# Altium schematic symbol library WE-HCMD.SchLib: 10 symbols
Pins are listed as number, name and electrical type; pins without a type are passive.

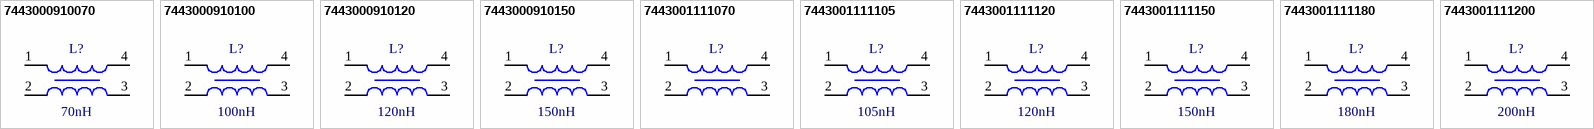
[diagram p0: symbols 7443000910070 to 7443001111200]

## 7443000910070
designator L?, comment 70nH
WE-HCMD High Current Inductor for TLVR Applications, SMT, size 0910, 70nH, 78A; Manufacturer Part Number: 7443000910070; Manufacturer: Wurth Elektronik; Case/Size Code: 0910; Coupling Coefficient: 0.93; DC Resistance 1: 0.125mΩ; DC Resistance 2: 0.33mΩ; Operating Voltage: 40V; Performance Rated Current 2: 53A; Saturation Current @ 20°C: 166A; Category: Power Inductors; Match Code: WE-HCMD; ComponentLink1Description: Website Link; ComponentLink1URL: https://www.we-online.com/redexpert/article/7443000910070?ad; ComponentLink2Description: Datasheet Link; ComponentLink2URL: https://www.we-online.com/redexpert/spec/7443000910070?ad; Mount: Surface Mount; Operating Temperature Max: 125°C; Operating Temperature Min: -40°C; Packaging: Tape and Reel; Length: 9.3mm; Width: 6.1mm; Height: 10.2mm; Inductance 1: 70nH; Inductance 2: 70nH; Performance Rated Current 1: 78A
footprint WE-HCMD_0910
simulation model 0910_7443000910070_0.07u
pins: 1, 2, 3, 4

## 7443000910100
designator L?, comment 100nH
WE-HCMD High Current Inductor for TLVR Applications, SMT, size 0910, 100nH, 78A; Manufacturer Part Number: 7443000910100; Manufacturer: Wurth Elektronik; Case/Size Code: 0910; Coupling Coefficient: 0.95; DC Resistance 1: 0.125mΩ; DC Resistance 2: 0.33mΩ; Operating Voltage: 40V; Performance Rated Current 2: 53A; Saturation Current @ 20°C: 117A; Category: Power Inductors; Match Code: WE-HCMD; ComponentLink1Description: Website Link; ComponentLink1URL: https://www.we-online.com/redexpert/article/7443000910100?ad; ComponentLink2Description: Datasheet Link; ComponentLink2URL: https://www.we-online.com/redexpert/spec/7443000910100?ad; Mount: Surface Mount; Operating Temperature Max: 125°C; Operating Temperature Min: -40°C; Packaging: Tape and Reel; Length: 9.3mm; Width: 6.1mm; Height: 10.2mm; Inductance 1: 100nH; Inductance 2: 100nH; Performance Rated Current 1: 78A
footprint WE-HCMD_0910
simulation model 0910_7443000910100_0.1u
pins: 1, 2, 3, 4

## 7443000910120
designator L?, comment 120nH
WE-HCMD High Current Inductor for TLVR Applications, SMT, size 0910, 120nH, 78A; Manufacturer Part Number: 7443000910120; Manufacturer: Wurth Elektronik; Case/Size Code: 0910; Coupling Coefficient: 0.96; DC Resistance 1: 0.125mΩ; DC Resistance 2: 0.33mΩ; Operating Voltage: 40V; Performance Rated Current 2: 53A; Saturation Current @ 20°C: 98A; Category: Power Inductors; Match Code: WE-HCMD; ComponentLink1Description: Website Link; ComponentLink1URL: https://www.we-online.com/redexpert/article/7443000910120?ad; ComponentLink2Description: Datasheet Link; ComponentLink2URL: https://www.we-online.com/redexpert/spec/7443000910120?ad; Mount: Surface Mount; Operating Temperature Max: 125°C; Operating Temperature Min: -40°C; Packaging: Tape and Reel; Length: 9.3mm; Width: 6.1mm; Height: 10.2mm; Inductance 1: 120nH; Inductance 2: 120nH; Performance Rated Current 1: 78A
footprint WE-HCMD_0910
simulation model 0910_7443000910120_0.12u
pins: 1, 2, 3, 4

## 7443000910150
designator L?, comment 150nH
WE-HCMD High Current Inductor for TLVR Applications, SMT, size 0910, 150nH, 78A; Manufacturer Part Number: 7443000910150; Manufacturer: Wurth Elektronik; Case/Size Code: 0910; Coupling Coefficient: 0.97; DC Resistance 1: 0.125mΩ; DC Resistance 2: 0.33mΩ; Operating Voltage: 40V; Performance Rated Current 2: 53A; Saturation Current @ 20°C: 79A; Category: Power Inductors; Match Code: WE-HCMD; ComponentLink1Description: Website Link; ComponentLink1URL: https://www.we-online.com/redexpert/article/7443000910150?ad; ComponentLink2Description: Datasheet Link; ComponentLink2URL: https://www.we-online.com/redexpert/spec/7443000910150?ad; Mount: Surface Mount; Operating Temperature Max: 125°C; Operating Temperature Min: -40°C; Packaging: Tape and Reel; Length: 9.3mm; Width: 6.1mm; Height: 10.2mm; Inductance 1: 150nH; Inductance 2: 150nH; Performance Rated Current 1: 78A
footprint WE-HCMD_0910
simulation model 0910_7443000910150_0.15u
pins: 1, 2, 3, 4

## 7443001111070
designator L?, comment 70nH  (value not drawn)
WE-HCMD High Current Inductor for TLVR Applications, SMT, size 1111, 70nH, 78A; Manufacturer Part Number: 7443001111070; Manufacturer: Wurth Elektronik; Case/Size Code: 1111; Coupling Coefficient: 0.93; DC Resistance 1: 0.125mΩ; DC Resistance 2: 0.37mΩ; Operating Voltage: 40V; Performance Rated Current 2: 53A; Saturation Current @ 20°C: 190A; Category: Power Inductors; Match Code: WE-HCMD; ComponentLink1Description: Website Link; ComponentLink1URL: https://www.we-online.com/redexpert/article/7443001111070?ad; ComponentLink2Description: Datasheet Link; ComponentLink2URL: https://www.we-online.com/redexpert/spec/7443001111070?ad; Mount: Surface Mount; Operating Temperature Max: 125°C; Operating Temperature Min: -40°C; Packaging: Tape and Reel; Length: 11.7mm; Width: 5.7mm; Height: 11mm; Inductance 1: 70nH; Inductance 2: 70nH; Performance Rated Current 1: 78A
footprint WE-HCMD_1111
simulation model 1111_7443001111070_0.07u
pins: 1, 2, 3, 4

## 7443001111105
designator L?, comment 105nH
WE-HCMD High Current Inductor for TLVR Applications, SMT, size 1111, 105nH, 78A; Manufacturer Part Number: 7443001111105; Manufacturer: Wurth Elektronik; Case/Size Code: 1111; Coupling Coefficient: 0.96; DC Resistance 1: 0.125mΩ; DC Resistance 2: 0.37mΩ; Operating Voltage: 40V; Performance Rated Current 2: 53A; Saturation Current @ 20°C: 142A; Category: Power Inductors; Match Code: WE-HCMD; ComponentLink1Description: Website Link; ComponentLink1URL: https://www.we-online.com/redexpert/article/7443001111105?ad; ComponentLink2Description: Datasheet Link; ComponentLink2URL: https://www.we-online.com/redexpert/spec/7443001111105?ad; Mount: Surface Mount; Operating Temperature Max: 125°C; Operating Temperature Min: -40°C; Packaging: Tape and Reel; Length: 11.7mm; Width: 5.7mm; Height: 11mm; Inductance 1: 105nH; Inductance 2: 105nH; Performance Rated Current 1: 78A
footprint WE-HCMD_1111
simulation model 1111_7443001111105_0.105u
pins: 1, 2, 3, 4

## 7443001111120
designator L?, comment 120nH
WE-HCMD High Current Inductor for TLVR Applications, SMT, size 1111, 120nH, 78A; Manufacturer Part Number: 7443001111120; Manufacturer: Wurth Elektronik; Case/Size Code: 1111; Coupling Coefficient: 0.96; DC Resistance 1: 0.125mΩ; DC Resistance 2: 0.37mΩ; Operating Voltage: 40V; Performance Rated Current 2: 53A; Saturation Current @ 20°C: 122A; Category: Power Inductors; Match Code: WE-HCMD; ComponentLink1Description: Website Link; ComponentLink1URL: https://www.we-online.com/redexpert/article/7443001111120?ad; ComponentLink2Description: Datasheet Link; ComponentLink2URL: https://www.we-online.com/redexpert/spec/7443001111120?ad; Mount: Surface Mount; Operating Temperature Max: 125°C; Operating Temperature Min: -40°C; Packaging: Tape and Reel; Length: 11.7mm; Width: 5.7mm; Height: 11mm; Inductance 1: 120nH; Inductance 2: 120nH; Performance Rated Current 1: 78A
footprint WE-HCMD_1111
simulation model 1111_7443001111120_0.12u
pins: 1, 2, 3, 4

## 7443001111150
designator L?, comment 150nH
WE-HCMD High Current Inductor for TLVR Applications, SMT, size 1111, 150nH, 78A; Manufacturer Part Number: 7443001111150; Manufacturer: Wurth Elektronik; Case/Size Code: 1111; Coupling Coefficient: 0.97; DC Resistance 1: 0.125mΩ; DC Resistance 2: 0.37mΩ; Operating Voltage: 40V; Performance Rated Current 2: 53A; Saturation Current @ 20°C: 99A; Category: Power Inductors; Match Code: WE-HCMD; ComponentLink1Description: Website Link; ComponentLink1URL: https://www.we-online.com/redexpert/article/7443001111150?ad; ComponentLink2Description: Datasheet Link; ComponentLink2URL: https://www.we-online.com/redexpert/spec/7443001111150?ad; Mount: Surface Mount; Operating Temperature Max: 125°C; Operating Temperature Min: -40°C; Packaging: Tape and Reel; Length: 11.7mm; Width: 5.7mm; Height: 11mm; Inductance 1: 150nH; Inductance 2: 150nH; Performance Rated Current 1: 78A
footprint WE-HCMD_1111
simulation model 1111_7443001111150_0.15u
pins: 1, 2, 3, 4

## 7443001111180
designator L?, comment 180nH
WE-HCMD High Current Inductor for TLVR Applications, SMT, size 1111, 180nH, 78A; Manufacturer Part Number: 7443001111180; Manufacturer: Wurth Elektronik; Case/Size Code: 1111; Coupling Coefficient: 0.97; DC Resistance 1: 0.125mΩ; DC Resistance 2: 0.37mΩ; Operating Voltage: 40V; Performance Rated Current 2: 53A; Saturation Current @ 20°C: 74A; Category: Power Inductors; Match Code: WE-HCMD; ComponentLink1Description: Website Link; ComponentLink1URL: https://www.we-online.com/redexpert/article/7443001111180?ad; ComponentLink2Description: Datasheet Link; ComponentLink2URL: https://www.we-online.com/redexpert/spec/7443001111180?ad; Mount: Surface Mount; Operating Temperature Max: 125°C; Operating Temperature Min: -40°C; Packaging: Tape and Reel; Length: 11.7mm; Width: 5.7mm; Height: 11mm; Inductance 1: 180nH; Inductance 2: 180nH; Performance Rated Current 1: 78A
footprint WE-HCMD_1111
simulation model 1111_7443001111180_0.18u
pins: 1, 2, 3, 4

## 7443001111200
designator L?, comment 200nH
WE-HCMD High Current Inductor for TLVR Applications, SMT, size 1111, 200nH, 78A; Manufacturer Part Number: 7443001111200; Manufacturer: Wurth Elektronik; Case/Size Code: 1111; Coupling Coefficient: 0.98; DC Resistance 1: 0.125mΩ; DC Resistance 2: 0.37mΩ; Operating Voltage: 40V; Performance Rated Current 2: 53A; Saturation Current @ 20°C: 68A; Category: Power Inductors; Match Code: WE-HCMD; ComponentLink1Description: Website Link; ComponentLink1URL: https://www.we-online.com/redexpert/article/7443001111200?ad; ComponentLink2Description: Datasheet Link; ComponentLink2URL: https://www.we-online.com/redexpert/spec/7443001111200?ad; Mount: Surface Mount; Operating Temperature Max: 125°C; Operating Temperature Min: -40°C; Packaging: Tape and Reel; Length: 11.7mm; Width: 5.7mm; Height: 11mm; Inductance 1: 200nH; Inductance 2: 200nH; Performance Rated Current 1: 78A
footprint WE-HCMD_1111
simulation model 1111_7443001111200_0.2u
pins: 1, 2, 3, 4